# EAGLE library part ST3485 (library serial_interfaces)
1/1 Transceiver Half RS422, RS485 8-SO
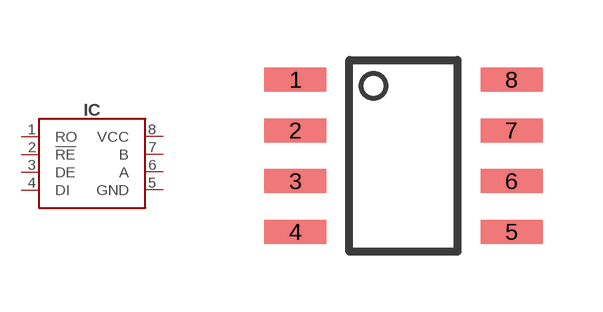
[diagram p7: symbol with the pads of SOIC8-3.9; footprint SOIC8-3.9]

Designator prefix IC

## ST3485-SOIC8 (DIGIKEY#: 497-2080-1-ND; MANF: STMicroelectronics; MANF#: ST3485EBDR)  [SOIC8-3.9]
1  RO  out
2  !RE  in
3  DE  in
4  DI  in
5  GND  sup
6  A
7  B
8  VCC  sup

## Footprint SOIC8-3.9 (pad centres in mm)
https://www.ti.com/lit/ds/snvsaq5a/snvsaq5a.pdf?ts=1602424164509
smd 1.55 x 0.6: 1 -2.7,1.905; 2 -2.7,0.635; 3 -2.7,-0.635; 4 -2.7,-1.905; 5 2.7,-1.905; 6 2.7,-0.635; 7 2.7,0.635; 8 2.7,1.905